# EAGLE library part LTC2956IMS-1#PBF (library PP_DigitalIC)
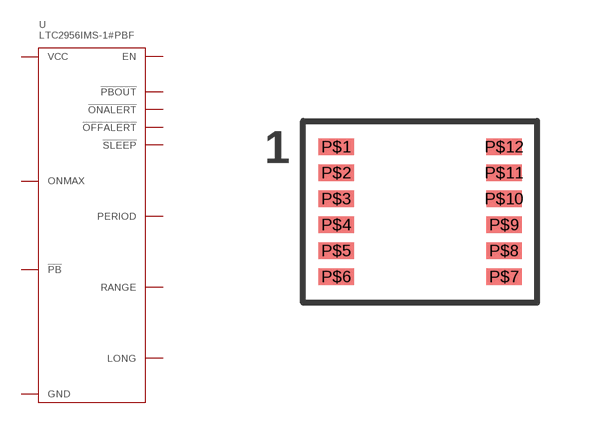
[diagram p44: symbol with the pads of LTC2956_MSOP-12; footprint LTC2956_MSOP-12]

Designator prefix U

## LTC2956IMS-1#PBF (MPN: LTC2956IMS-1#PBF; POPULATE: 1)  [LTC2956_MSOP-12]
P$1  ONMAX
P$2  LONG
P$3  RANGE
P$4  PERIOD
P$5  VCC
P$6  GND
P$7  !PB
P$8  EN
P$9  !PBOUT
P$10  !OFFALERT
P$11  !SLEEP
P$12  !ONALERT

## Footprint LTC2956_MSOP-12 (pad centres in mm)
smd 0.889 x 0.42: P$1 -2.1,1.625; P$2 -2.1,0.975; P$3 -2.1,0.325; P$4 -2.1,-0.325; P$5 -2.1,-0.975; P$6 -2.1,-1.625; P$7 2.1,-1.625; P$8 2.1,-0.975; P$9 2.1,-0.325; P$10 2.1,0.325; P$11 2.1,0.975; P$12 2.1,1.625